# Altium footprint library Diode_SMD.PcbLib: 69 footprints (part 1 of 5)
Each footprint in its own frame and in the unit in brackets; x right, y up, seen from the top. Pads: shape width x height; smd on the part's side, far side on the other; paste and mask are expansions set on the pad; w line width, h text height; cw(c..) or ccw(c..) is an arc to the next point about the centre after c.
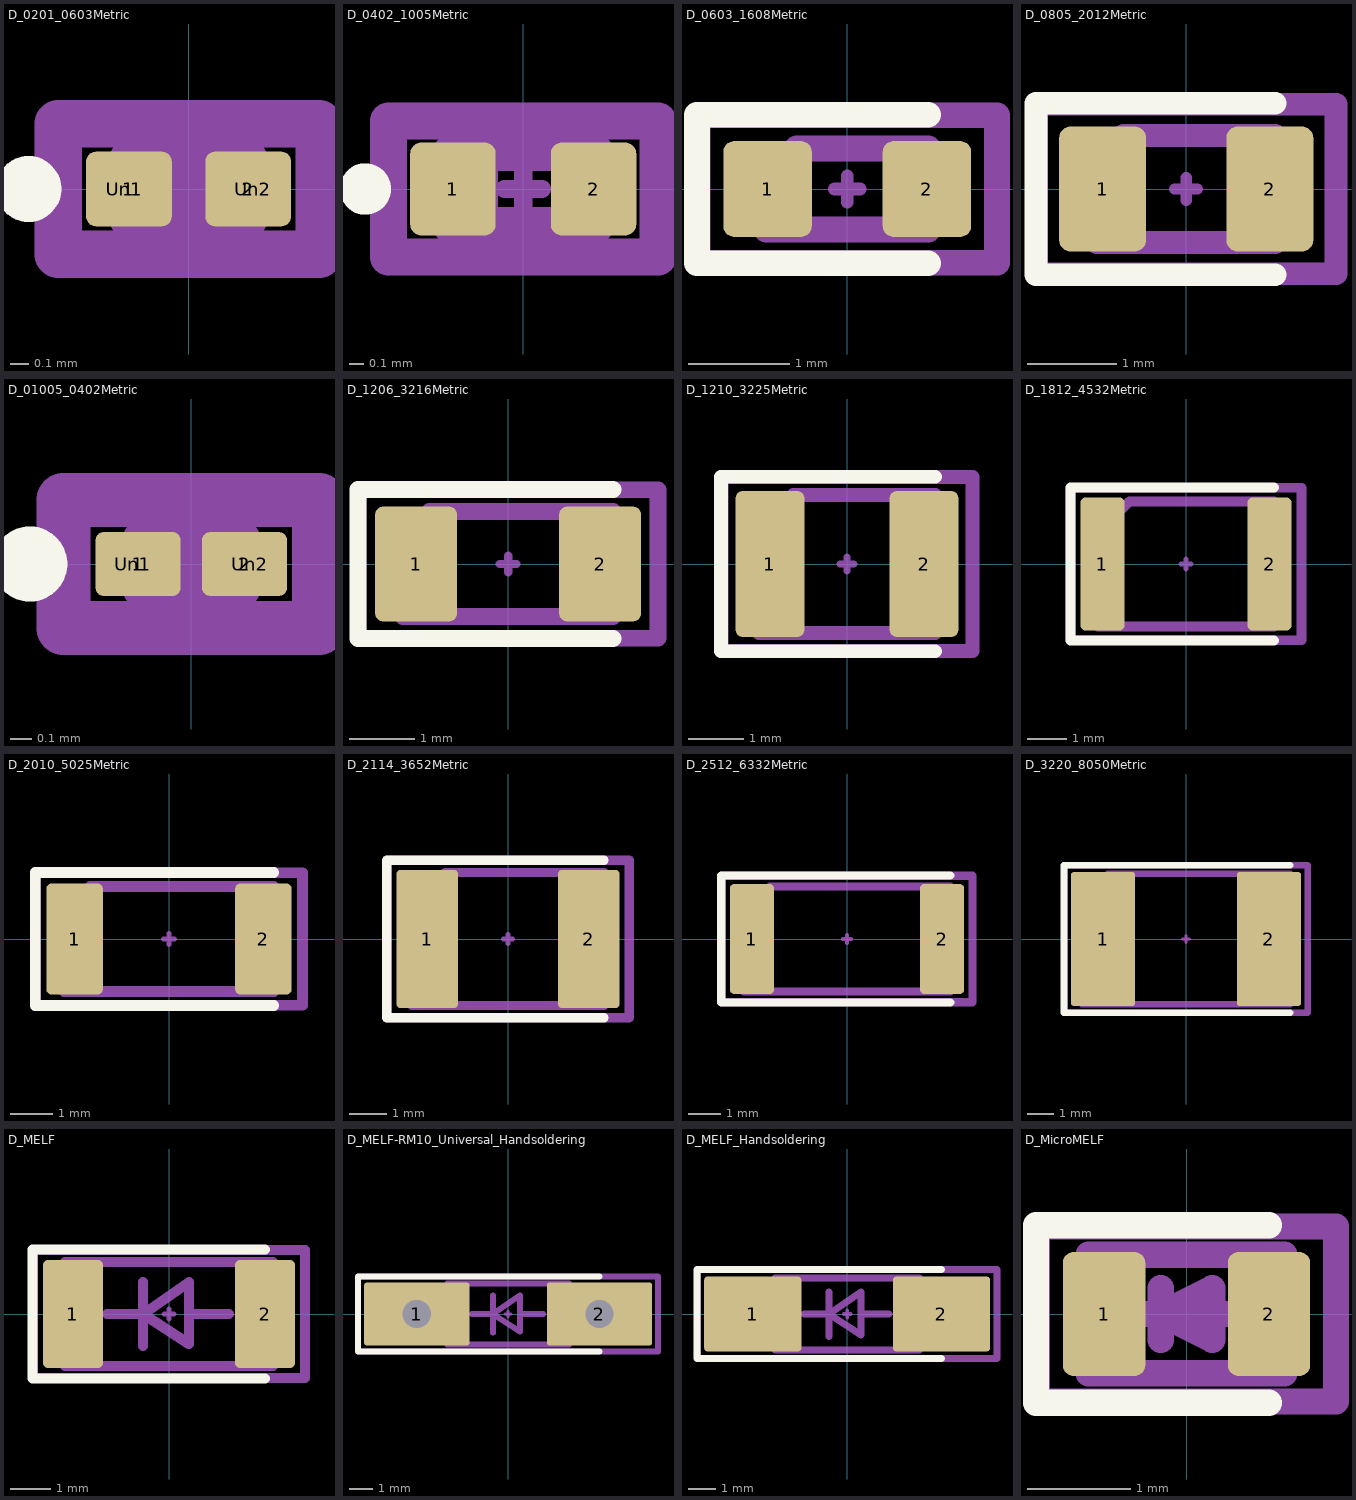
[diagram p0: the footprints below, top view; thin cyan lines are the x and y axes]

## D_0201_0603Metric [mm] "D_0201_0603Metric"
pads (4):
  rrect25% 0.46x0.4 smd: 1(-0.32,0) 2(0.32,0)
  rrect25% 0.318x0.36 on Top Paste: Un1(-0.345,0) Un2(0.345,0)
F.SilkS:
  circle w0.254: c-0.86,0 r0.05
Top Component Center:
  lines w0.127: -0.127,0 0.127,0 ; 0,-0.127 0,0.127
Top Assembly:
  lines w0.254: -0.2,-0.15 -0.2,0.15 ; -0.1,-0.15 -0.1,0.15 ; -0.3,-0.15 0.3,-0.15 0.3,0.15 -0.3,0.15 -0.3,-0.15
Top Courtyard:
  lines w0.254: -0.7,-0.35 0.7,-0.35 0.7,0.35 -0.7,0.35 -0.7,-0.35
Top Designator:
  text ".Designator" at -1.127,-0.113 h0.5

## D_0402_1005Metric [mm] "D_0402_1005Metric"
pads (2):
  rrect25% 0.59x0.64 smd: 1(-0.485,0) 2(0.485,0)
F.SilkS:
  circle w0.254: c-1.09,0 r0.05
Top Component Center:
  lines w0.127: -0.127,0 0.127,0 ; 0,-0.127 0,0.127
Top Assembly:
  lines w0.254: -0.4,-0.25 -0.4,0.25 ; -0.3,-0.25 -0.3,0.25 ; -0.5,-0.25 -0.5,0.25 0.5,0.25 0.5,-0.25 -0.5,-0.25
Top Courtyard:
  lines w0.254: -0.93,-0.47 0.93,-0.47 0.93,0.47 -0.93,0.47 -0.93,-0.47
Top Designator:
  text ".Designator" at -1.127,-0.113 h0.5

## D_0603_1608Metric [mm] "D_0603_1608Metric"
pads (2):
  rrect25% 0.875x0.95 smd: 1(-0.787,0) 2(0.787,0)
F.SilkS:
  lines w0.254: 0.8,-0.735 -1.485,-0.735 -1.485,0.735 0.8,0.735
Top Component Center:
  lines w0.127: -0.127,0 0.127,0 ; 0,-0.127 0,0.127
Top Assembly:
  lines w0.254: -0.8,-0.4 0.8,-0.4 0.8,0.4 -0.5,0.4 -0.8,0.1 -0.8,-0.4
Top Courtyard:
  lines w0.254: -1.48,-0.73 1.48,-0.73 1.48,0.73 -1.48,0.73 -1.48,-0.73
Top Designator:
  text ".Designator" at -1.69,-0.169 h0.75
3D body "D_0603_1608Metric.step": height 0.66, standoff 0, extent -0.8,-0.435 0.8,0.435

## D_0805_2012Metric [mm] "D_0805_2012Metric"
pads (2):
  rrect25% 0.975x1.4 smd: 1(-0.937,0) 2(0.937,0)
F.SilkS:
  lines w0.254: 1,-0.96 -1.685,-0.96 -1.685,0.96 1,0.96
Top Component Center:
  lines w0.127: -0.127,0 0.127,0 ; 0,-0.127 0,0.127
Top Assembly:
  lines w0.254: -1,-0.6 -1,0.3 -0.7,0.6 1,0.6 1,-0.6 -1,-0.6
Top Courtyard:
  lines w0.254: -1.68,-0.95 -1.68,0.95 1.68,0.95 1.68,-0.95 -1.68,-0.95
Top Designator:
  text ".Designator" at -1.69,-0.169 h0.75
3D body "D_0805_2012Metric.step": height 0.8, standoff 0, extent -1,-0.635 1,0.635
3D body "D_0805_2012Metric.step": height 0.8, standoff 0, extent -1,-0.635 1,0.635

## D_01005_0402Metric [mm] "D_01005_0402Metric"
pads (4):
  rrect25% 0.4x0.3 smd: 1(-0.25,0) 2(0.25,0)
  rrect25% 0.27x0.27 on Top Paste: Un1(-0.275,0) Un2(0.275,0)
F.SilkS:
  circle w0.254: c-0.76,0 r0.05
Top Component Center:
  lines w0.127: -0.127,0 0.127,0 ; 0,-0.127 0,0.127
Top Assembly:
  lines w0.254: -0.1,-0.1 -0.1,0.1 ; -0.2,-0.1 0.2,-0.1 0.2,0.1 -0.2,0.1 -0.2,-0.1
Top Courtyard:
  lines w0.254: -0.6,-0.3 0.6,-0.3 0.6,0.3 -0.6,0.3 -0.6,-0.3
Top Designator:
  text ".Designator" at -1.127,-0.113 h0.5

## D_1206_3216Metric [mm] "D_1206_3216Metric"
pads (2):
  rrect20% 1.25x1.75 smd: 1(-1.4,0) 2(1.4,0)
F.SilkS:
  lines w0.254: 1.6,-1.135 -2.285,-1.135 -2.285,1.135 1.6,1.135
Top Component Center:
  lines w0.127: -0.127,0 0.127,0 ; 0,-0.127 0,0.127
Top Assembly:
  lines w0.254: -1.6,-0.8 -1.6,0.4 -1.2,0.8 1.6,0.8 1.6,-0.8 -1.6,-0.8
Top Courtyard:
  lines w0.254: -2.28,-1.13 -2.28,1.13 2.28,1.13 2.28,-1.13 -2.28,-1.13
Top Designator:
  text ".Designator" at -2.254,-0.226 h1
3D body "D_1206_3216Metric.step": height 0.96, standoff 0, extent -1.7,-0.935 1.7,0.935
3D body "D_1206_3216Metric.step": height 0.96, standoff 0, extent -1.7,-0.935 1.7,0.935

## D_1210_3225Metric [mm] "D_1210_3225Metric"
pads (2):
  rrect20% 1.25x2.65 smd: 1(-1.4,0) 2(1.4,0)
F.SilkS:
  lines w0.254: 1.6,-1.585 -2.285,-1.585 -2.285,1.585 1.6,1.585
Top Component Center:
  lines w0.127: -0.127,0 0.127,0 ; 0,-0.127 0,0.127
Top Assembly:
  lines w0.254: -1.6,-1.25 1.6,-1.25 1.6,1.25 -0.975,1.25 -1.6,0.625 -1.6,-1.25
Top Courtyard:
  lines w0.254: -2.28,-1.58 2.28,-1.58 2.28,1.58 -2.28,1.58 -2.28,-1.58
Top Designator:
  text ".Designator" at -3.38,-0.339 h1.5

## D_1812_4532Metric [mm] "D_1812_4532Metric"
pads (2):
  rrect22% 1.125x3.4 smd: 1(-2.137,0) 2(2.137,0)
F.SilkS:
  lines w0.254: 2.25,-1.96 -2.96,-1.96 -2.96,1.96 2.25,1.96
Top Component Center:
  lines w0.127: -0.127,0 0.127,0 ; 0,-0.127 0,0.127
Top Assembly:
  lines w0.254: -2.25,-1.6 2.25,-1.6 2.25,1.6 -1.45,1.6 -2.25,0.8 -2.25,-1.6
Top Courtyard:
  lines w0.254: -2.95,-1.95 2.95,-1.95 2.95,1.95 -2.95,1.95 -2.95,-1.95
Top Designator:
  text ".Designator" at -3.435,-0.344 h1.52

## D_2010_5025Metric [mm] "D_2010_5025Metric"
pads (2):
  rrect19% 1.35x2.65 smd: 1(-2.25,0) 2(2.25,0)
F.SilkS:
  lines w0.254: 2.5,-1.585 -3.185,-1.585 -3.185,1.585 2.5,1.585
Top Component Center:
  lines w0.127: -0.127,0 0.127,0 ; 0,-0.127 0,0.127
Top Assembly:
  lines w0.254: -2.5,-1.25 -2.5,0.625 -1.875,1.25 2.5,1.25 2.5,-1.25 -2.5,-1.25
Top Courtyard:
  lines w0.254: -3.18,-1.58 -3.18,1.58 3.18,1.58 3.18,-1.58 -3.18,-1.58
Top Designator:
  text ".Designator" at -3.435,-0.344 h1.52
3D body "D_2010_5025Metric.step": height 0.96, standoff 0, extent -2.25,-1.075 2.25,1.075

## D_2114_3652Metric [mm] "D_2114_3652Metric"
pads (2):
  rrect15% 1.675x3.75 smd: 1(-2.187,0) 2(2.187,0)
F.SilkS:
  lines w0.254: 2.6,-2.135 -3.285,-2.135 -3.285,2.135 2.6,2.135
Top Component Center:
  lines w0.127: -0.127,0 0.127,0 ; 0,-0.127 0,0.127
Top Assembly:
  lines w0.254: -2.6,-1.8 2.6,-1.8 2.6,1.8 -1.7,1.8 -2.6,0.9 -2.6,-1.8
Top Courtyard:
  lines w0.254: -3.28,-2.13 3.28,-2.13 3.28,2.13 -3.28,2.13 -3.28,-2.13
Top Designator:
  text ".Designator" at -3.585,-0.344 h1.52
3D body "D_2114_3652Metric.step": height 1.05, standoff 0, extent -2.6,-1.775 2.6,1.775

## D_2512_6332Metric [mm] "D_2512_6332Metric"
pads (2):
  rrect19% 1.35x3.35 smd: 1(-2.9,0) 2(2.9,0)
F.SilkS:
  lines w0.254: 3.15,-1.935 -3.835,-1.935 -3.835,1.935 3.15,1.935
Top Component Center:
  lines w0.127: -0.127,0 0.127,0 ; 0,-0.127 0,0.127
Top Assembly:
  lines w0.254: -3.15,-1.6 3.15,-1.6 3.15,1.6 -2.35,1.6 -3.15,0.8 -3.15,-1.6
Top Courtyard:
  lines w0.254: -3.83,-1.93 3.83,-1.93 3.83,1.93 -3.83,1.93 -3.83,-1.93
Top Designator:
  text ".Designator" at -3.435,-0.344 h1.52

## D_3220_8050Metric [mm] "D_3220_8050Metric"
pads (2):
  rrect10% 2.475x5.15 smd: 1(-3.187,0) 2(3.187,0)
F.SilkS:
  lines w0.254: 4,-2.835 -4.685,-2.835 -4.685,2.835 4,2.835
Top Component Center:
  lines w0.127: -0.127,0 0.127,0 ; 0,-0.127 0,0.127
Top Assembly:
  lines w0.254: -4,-2.5 -4,1.5 -3,2.5 4,2.5 4,-2.5 -4,-2.5
Top Courtyard:
  lines w0.254: -4.68,-2.83 -4.68,2.83 4.68,2.83 4.68,-2.83 -4.68,-2.83
Top Designator:
  text ".Designator" at -3.435,-0.344 h1.52
3D body "D_3220_8050Metric.step": height 1.05, standoff 0, extent -4,-2.475 4,2.475

## D_MELF [mm] "D_MELF"
pads (2):
  rrect17% 1.5x2.7 smd: 1(-2.4,0) 2(2.4,0)
F.SilkS:
  lines w0.254: 2.4,-1.61 -3.41,-1.61 -3.41,1.61 2.4,1.61
Top Component Center:
  lines w0.127: -0.127,0 0.127,0 ; 0,-0.127 0,0.127
Top Assembly:
  lines w0.254: -1.551,-0.001 -0.649,-0.001 ; -0.649,-0.801 -0.649,0.799 ; 0.501,-0.001 1.499,-0.001 ; -0.649,-0.001 0.501,0.799 0.501,-0.75 -0.649,-0.001 ; -2.6,-1.3 -2.6,1.3 2.6,1.3 2.6,-1.3 -2.6,-1.3
Top Courtyard:
  lines w0.254: -3.4,-1.6 -3.4,1.6 3.4,1.6 3.4,-1.6 -3.4,-1.6
Top Designator:
  text ".Designator" at -3.435,-0.344 h1.52
3D body "D_MELF.step": height 2.2, standoff 0, extent -2.9,-1.092 2.9,1.092

## D_MELF-RM10_Universal_Handsoldering [mm] "D_MELF-RM10_Universal_Handsoldering"
pads (2):
  rrect9% 4.5x2.7 hole 1.199: 1(-3.9,0) 2(3.9,0)
F.SilkS:
  lines w0.254: 3.9,-1.61 -6.41,-1.61 -6.41,1.61 3.9,1.61
Top Component Center:
  lines w0.127: -0.127,0 0.127,0 ; 0,-0.127 0,0.127
Top Assembly:
  lines w0.254: -1.551,-0.001 -0.649,-0.001 ; -0.649,-0.801 -0.649,0.799 ; 0.501,-0.001 1.499,-0.001 ; -0.649,-0.001 0.501,0.799 0.501,-0.75 -0.649,-0.001 ; -2.6,-1.3 -2.6,1.3 2.6,1.3 2.6,-1.3 -2.6,-1.3
Top Courtyard:
  lines w0.254: -6.4,-1.6 -6.4,1.6 6.4,1.6 6.4,-1.6 -6.4,-1.6
Top Designator:
  text ".Designator" at -3.435,-0.344 h1.52

## D_MELF_Handsoldering [mm] "D_MELF_Handsoldering"
pads (2):
  rrect9% 3.5x2.7 smd: 1(-3.4,0) 2(3.4,0)
F.SilkS:
  lines w0.254: 3.4,-1.61 -5.41,-1.61 -5.41,1.61 3.4,1.61
Top Component Center:
  lines w0.127: -0.127,0 0.127,0 ; 0,-0.127 0,0.127
Top Assembly:
  lines w0.254: -1.551,-0.001 -0.649,-0.001 ; -0.649,-0.801 -0.649,0.799 ; 0.501,-0.001 1.499,-0.001 ; -0.649,-0.001 0.501,0.799 0.501,-0.75 -0.649,-0.001 ; -2.6,-1.3 -2.6,1.3 2.6,1.3 2.6,-1.3 -2.6,-1.3
Top Courtyard:
  lines w0.254: -5.4,-1.6 -5.4,1.6 5.4,1.6 5.4,-1.6 -5.4,-1.6
Top Designator:
  text ".Designator" at -3.435,-0.344 h1.52

## D_MicroMELF [mm] "D_MicroMELF"
pads (2):
  rrect25% 0.8x1.2 smd: 1(-0.8,0) 2(0.8,0)
F.SilkS:
  lines w0.254: 0.8,-0.86 -1.46,-0.86 -1.46,0.86 0.8,0.86
Top Component Center:
  lines w0.127: -0.127,0 0.127,0 ; 0,-0.127 0,0.127
Top Assembly:
  lines w0.254: -0.75,0 -0.25,0 ; -0.25,-0.25 -0.25,0.25 ; 0.25,0 0.75,0 ; -0.25,0 0.25,-0.25 0.25,0.25 -0.25,0 ; -0.95,-0.575 -0.95,0.575 0.95,0.575 0.95,-0.575 -0.95,-0.575
Top Courtyard:
  lines w0.254: -1.45,-0.85 -1.45,0.85 1.45,0.85 1.45,-0.85 -1.45,-0.85
Top Designator:
  text ".Designator" at -1.69,-0.169 h0.75
3D body "D_MicroMELF.step": height 1.1, standoff 0, extent -1.1,-0.546 1.1,0.546